# Altium footprint library AnalogDevices.PcbLib: 1 footprints
Each footprint in its own frame and in the unit in brackets; x right, y up, seen from the top. Pads: shape width x height; smd on the part's side, far side on the other; paste and mask are expansions set on the pad; w line width, h text height; cw(c..) or ccw(c..) is an arc to the next point about the centre after c.
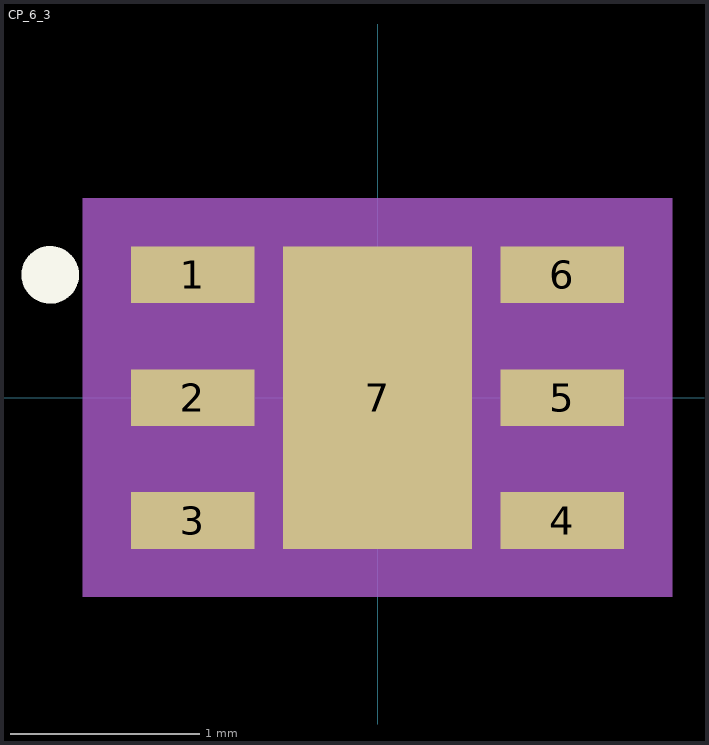
[diagram p0: the footprint, top view; thin cyan lines are the x and y axes]

## CP_6_3 [mm]
pads (7):
  rect 0.655x0.3 smd: 1(-0.977,0.65) 2(-0.977,0) 3(-0.977,-0.65) 4(0.977,-0.65) 5(0.977,0) 6(0.977,0.65)
  rect 1x1.6 smd: 7(0,0)
Top Overlay:
  circle w0.152: c-1.731,0.65 r0.076
Top Paste:
  region: 0.5,0.8 -0.5,0.8 -0.5,-0.8 0.5,-0.8
Mechanical 13:
  lines w0: -0.305,1 ccw(c0,1) 0.305,1
  lines w0.025: -1,-1 1,-1 1,1 -1,1 -1,-1
Mechanical 15:
  region: -1.254,-1.054 -1.559,-1.054 -1.559,1.054 -1.254,1.054 1.254,1.054 1.559,1.054 1.559,-1.054 1.254,-1.054
3D body: height 0.25, standoff 0, extent 0,0 0.254,0.254
3D body "CP_6_3.step": height 0.55, standoff 0, extent -1,-1 1,1